# EAGLE library part HFJV1-RPE30-L12RL (library halo-electronics)
FastJack w/LEDs
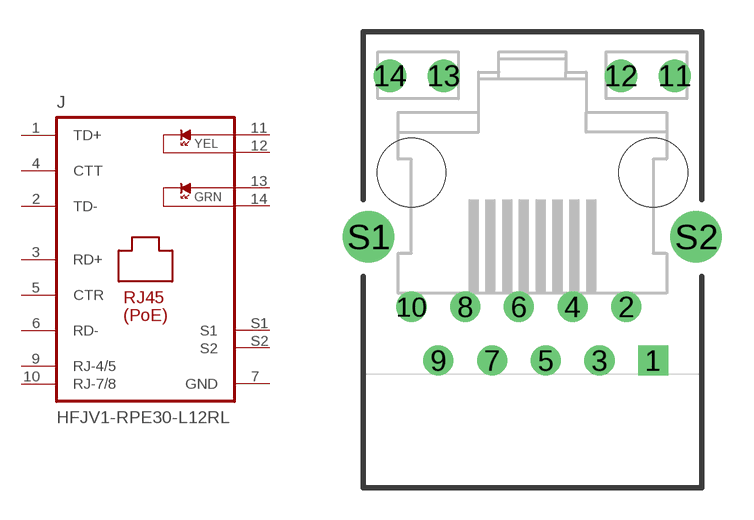
[diagram p2: symbol with the pads of HFJV1-RPE30-L12RL; footprint HFJV1-RPE30-L12RL]

Designator prefix J

## HFJV1-RPE30-L12RL  [HFJV1-RPE30-L12RL]
1  TD+  pas
2  TD-  pas
3  RD+  pas
4  CTT  pas
5  CTR  pas
6  RD-  pas
7  GND  pas
9  RJ-4/5  pas
10  RJ-7/8  pas
11  P11  pas
12  P12  pas
13  P13  pas
14  P14  pas
S1  S1  pas
S2  S2  pas

## Footprint HFJV1-RPE30-L12RL (pad centres in mm)
FastJack Vertical RJ45 with Ethernet Balun and LED's
drill 0.914 square: 1 5.715,-8.89
drill 0.914: 2 4.445,-6.35; 3 3.175,-8.89; 4 1.905,-6.35; 5 0.635,-8.89; 6 -0.635,-6.35; 7 -1.905,-8.89; 8 -3.175,-6.35; 9 -4.445,-8.89; 10 -5.715,-6.35
drill 1.016: 11 6.731,4.572; 12 4.191,4.572; 13 -4.191,4.572; 14 -6.731,4.572
drill 1.626: S1 -7.747,-3.048; S2 7.747,-3.048
hole 3.251 at -5.715,0
hole 3.251 at 5.715,0